# Altium footprint library EG701_BMS.PcbLib: 15 footprints
Each footprint in its own frame and in the unit in brackets; x right, y up, seen from the top. Pads: shape width x height; smd on the part's side, far side on the other; paste and mask are expansions set on the pad; w line width, h text height; cw(c..) or ccw(c..) is an arc to the next point about the centre after c.
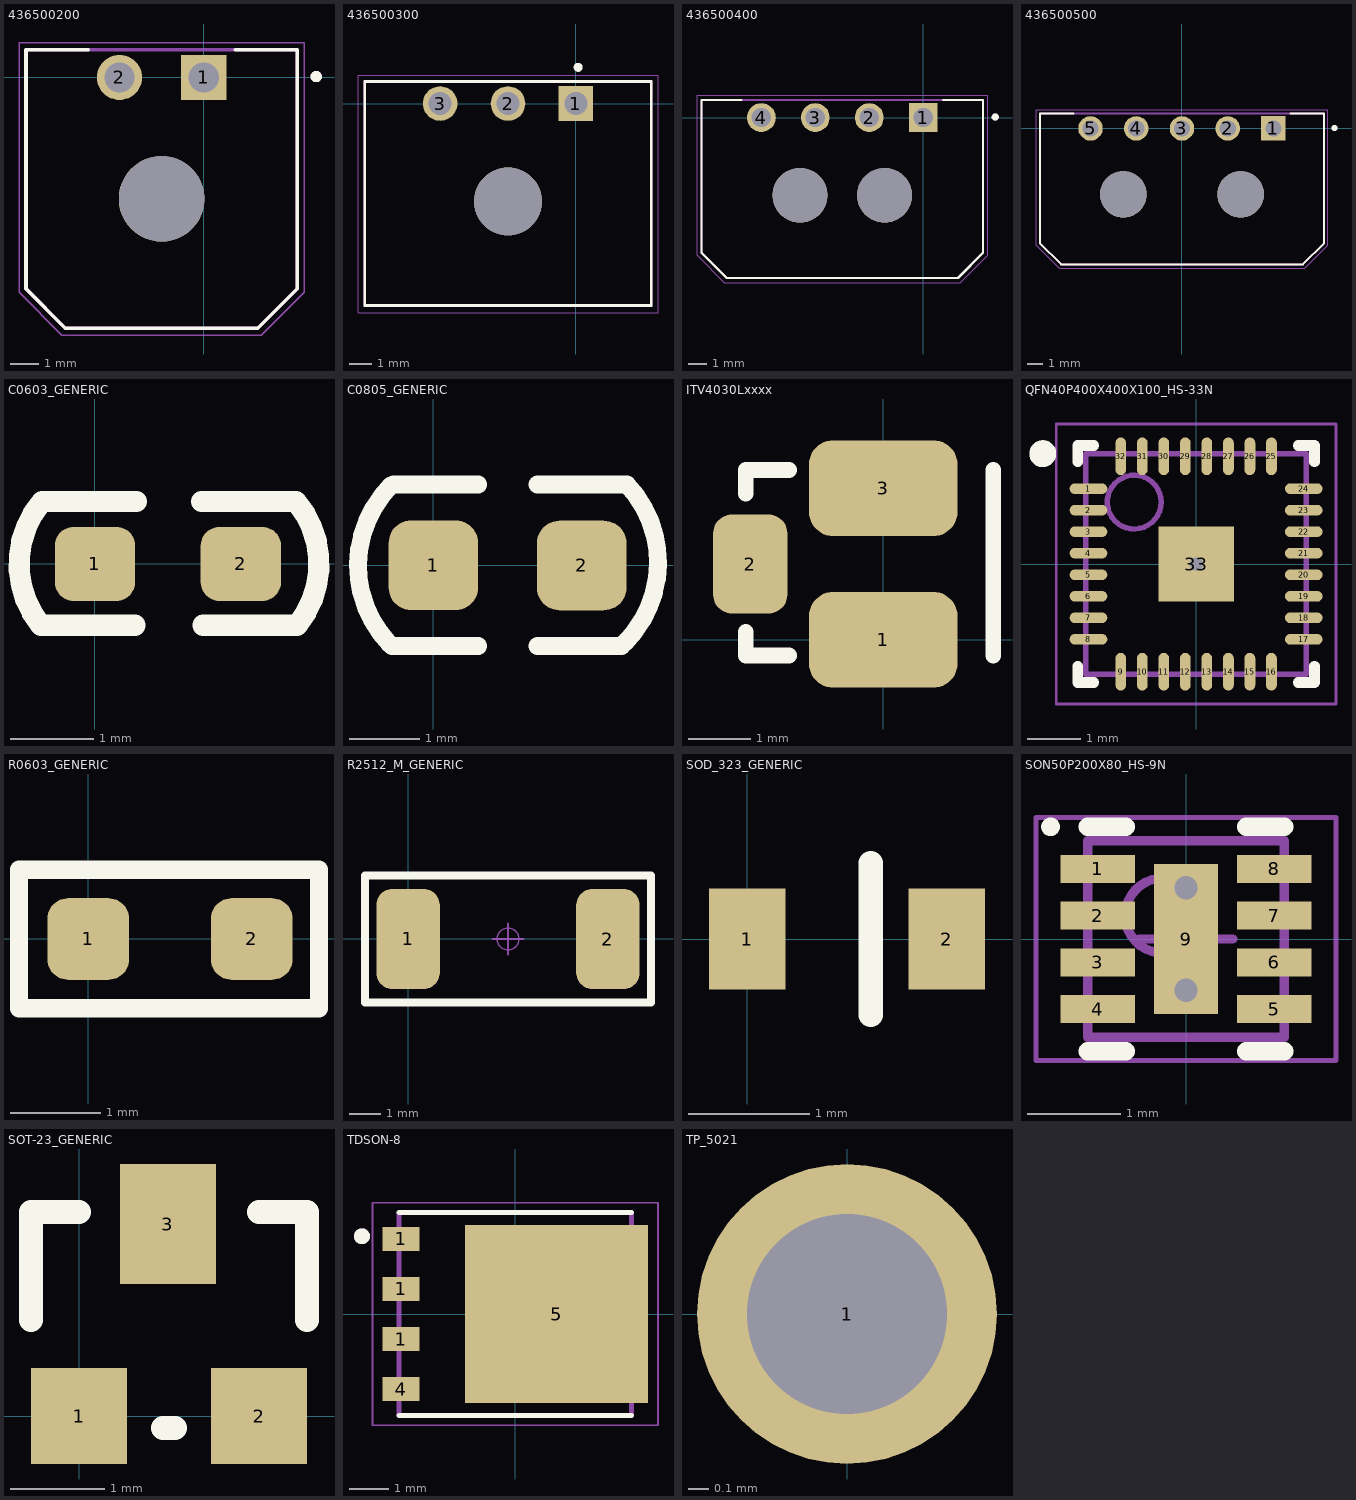
[diagram p0: the footprints below, top view; thin cyan lines are the x and y axes]

## 436500200 [mm] "Molex MicroFit RA 2P"
pads (3):
  rect 1.605x1.605 hole 1.07: 1(0,0)
  round 1.605 hole 1.07: 2(-3,0)
  round 3.05 hole 3.05 unplated: ""(-1.5,-4.32)
Top Overlay:
  circle w0.2: c4,0.03 r0.1
  lines w0.127: -4.12,0.98 -6.325,0.98 -6.325,-7.52 -4.925,-8.92 1.925,-8.92 3.325,-7.52 3.325,0.98 1.12,0.98
Mechanical 13:
  circle w0.2: c4,0.03 r0.1
  lines w0.127: -6.325,-7.52 -6.325,0.98 3.325,0.98 3.325,-7.52 1.925,-8.92 -4.925,-8.92 -6.325,-7.52
Mechanical 15:
  lines w0.05: -6.575,-7.645 -6.575,1.23 3.575,1.23 3.575,-7.645 2.05,-9.17 -5.05,-9.17 -6.575,-7.645
3D body "436500200.stp": height 5.64, standoff -3.27, extent -6.325,-8.92 3.325,0.98

## 436500300 [mm] "Molex MicroFit RA 3P"
pads (4):
  rect 1.53x1.53 hole 1.02: 1(0,0)
  round 1.53 hole 1.02: 2(-3,0) 3(-6,0)
  round 3 hole 3 unplated: ""(-3,-4.32)
Top Overlay:
  circle w0.2: c0.1,1.6 r0.1
  lines w0.127: -9.325,-8.92 -9.325,0.98 3.325,0.98 3.325,-8.92 -9.325,-8.92
Mechanical 13:
  lines w0.127: -9.325,-8.92 -9.325,0.98 3.325,0.98 3.325,-8.92 -9.325,-8.92
Mechanical 15:
  lines w0.05: -9.625,-9.25 -9.625,1.25 3.625,1.25 3.625,-9.25 -9.625,-9.25
3D body "436500300.stp": height 5.64, standoff -3.27, extent -9.325,-8.887 3.325,1.013

## 436500400 [mm] "MOLEX MicroFit RA 4P"
pads (6):
  rect 1.605x1.605 hole 1.07: 1(0,0)
  round 1.605 hole 1.07: 2(-3,0) 3(-6,0) 4(-9,0)
  round 3.05 hole 3.05 unplated: ""(-6.85,-4.32) ""(-2.15,-4.32)
Top Overlay:
  circle w0.2: c4,0.03 r0.1
  lines w0.127: -10.12,0.98 -12.325,0.98 -12.325,-7.52 -10.925,-8.92 1.925,-8.92 3.325,-7.52 3.325,0.98 1.12,0.98
Mechanical 13:
  circle w0.2: c4,0.03 r0.1
  lines w0.127: -12.325,-7.52 -10.925,-8.92 1.925,-8.92 3.325,-7.52 3.325,0.98 -12.325,0.98 -12.325,-7.52
Mechanical 15:
  lines w0.05: -12.575,-7.645 -11.05,-9.17 2.05,-9.17 3.575,-7.645 3.575,1.23 -12.575,1.23 -12.575,-7.645
3D body "436500400.stp": height 5.64, standoff -3.27, extent -12.325,-8.92 3.325,0.98

## 436500500 [mm] "MOLEX MicroFit RA 5P"
pads (7):
  rect 1.605x1.605 hole 1.07: 1(6,0)
  round 1.605 hole 1.07: 2(3,0) 3(0,0) 4(-3,0) 5(-6,0)
  round 3.05 hole 3.05 unplated: ""(-3.85,-4.32) ""(3.85,-4.32)
Top Overlay:
  circle w0.2: c10,0.03 r0.1
  lines w0.127: -7.12,0.98 -9.325,0.98 -9.325,-7.52 -7.925,-8.92 7.925,-8.92 9.325,-7.52 9.325,0.98 7.12,0.98
Mechanical 13:
  circle w0.2: c10,0.03 r0.1
  lines w0.127: -9.325,0.98 -9.325,-7.52 -7.925,-8.92 7.925,-8.92 9.325,-7.52 9.325,0.98 -9.289,0.98
Mechanical 15:
  lines w0.05: -9.575,-7.645 -8.05,-9.17 8.05,-9.17 9.575,-7.645 9.575,1.23 -9.575,1.23 -9.575,-7.645
3D body "436500500.stp": height 5.64, standoff -3.27, extent -9.289,-8.887 9.351,1.013

## C0603_GENERIC [mil]
pads (2):
  rrect50% 38x35 smd: 1(0,0) 2(69,0)
Top Overlay:
  lines w10: 19,-29 -25.6,-29 cw(c9.84,-0.04) -25.08,29.56 19.56,29.56 ; 50.44,29.56 95.08,29.56 cw(c60.16,-0.04) 95.6,-29 51,-29
3D body "User Library-0603 SMD Capacitor.STEP": height 11.89, standoff 0, extent 3.8,-15.8 66.8,15.7

## C0805_GENERIC [mm]
pads (2):
  rrect50% 1.27x1.27 smd: 1(0,0) 2(2.101,-0.003)
Top Overlay:
  lines w0.254: -0.626,-1.109 cw(c0.539,-0.002) -0.602,1.13 ; -0.589,-1.143 0.635,-1.143 ; -0.566,1.143 0.635,1.143 ; 1.473,-1.143 2.667,-1.143 ; 1.473,1.143 2.72,1.143 ; 2.716,-1.093 ccw(c1.574,0.039) 2.743,1.143
3D body "User Library-0805 SMD Capacitor.STEP": height 0.77, standoff -0.01, extent 0.049,-0.622 2.049,0.628

## ITV4030Lxxxx [mm] "Battery Protector/Controllable Fuse"
pads (3):
  rrect50% 2.4x1.55 smd: 1(0,0) 3(0,2.45)
  rrect50% 1.2x1.6 smd: 2(-2.15,1.225)
Top Overlay:
  lines w0.254: -2.222,0.127 -2.222,-0.254 -1.524,-0.254 ; -2.222,2.365 -2.222,2.746 -1.524,2.746 ; 1.778,-0.254 1.778,2.746
3D body: height 0.9, standoff 0, extent -2.159,-0.254 1.778,2.794

## QFN40P400X400X100_HS-33N [mm] "QFN, 32-Leads, Body 4.00x4.00mm, Pitch 0.40mm, Thermal Pad 1.40x1.40mm, IPC Medium Density"
height 1
pads (33):
  oval 0.7x0.2 smd: 1(-2,1.4) 2(-2,1) 3(-2,0.6) 4(-2,0.2) 5(-2,-0.2) 6(-2,-0.6) 7(-2,-1) 8(-2,-1.4) 17(2,-1.4) 18(2,-1) 19(2,-0.6) 20(2,-0.2) 21(2,0.2) 22(2,0.6) 23(2,1) 24(2,1.4)
  oval 0.2x0.7 smd: 9(-1.4,-2) 10(-1,-2) 11(-0.6,-2) 12(-0.2,-2) 13(0.2,-2) 14(0.6,-2) 15(1,-2) 16(1.4,-2) 25(1.4,2) 26(1,2) 27(0.6,2) 28(0.2,2) 29(-0.2,2) 30(-0.6,2) 31(-1,2) 32(-1.4,2)
  rect 1.4x1.4 smd: 33(0,0)
via 0,0 diameter 0.5 hole 0.25
Top Overlay:
  circle w0.25: c-2.85,2.05 r0.125
  lines w0.2: -2.2,-1.9 -2.2,-2.2 -1.9,-2.2 ; -2.2,1.9 -2.2,2.2 -1.9,2.2 ; 1.9,-2.2 2.2,-2.2 2.2,-1.9 ; 1.9,2.2 2.2,2.2 2.2,1.9
Mechanical 13:
  circle w0.1: c-1.15,1.15 r0.5
  lines w0.1: -2.05,-2.05 2.05,-2.05 2.05,2.05 -2.05,2.05 -2.05,-2.05
Mechanical 15:
  lines w0.05: -2.6,-2.6 2.6,-2.6 2.6,2.6 -2.6,2.6 -2.6,-2.6
  lines w0.1: -0.5,0 0.5,0 ; 0,-0.5 0,0.5
3D body: height 1, standoff 0, extent -2.05,-2.05 2.05,2.05

## R0603_GENERIC [mm] "http://www.vishay.com/docs/28745/soldpads.pdf"
pads (2):
  rrect50% 0.9x0.9 smd: 1(0,0) 2(1.8,0)
Top Overlay:
  lines w0.2: -0.762,-0.762 2.54,-0.762 2.54,0.762 -0.762,0.762 -0.762,-0.762
3D body: height 0.5, standoff 0, extent 1.45,-0.4 1.7,0.4
3D body: height 0.5, standoff 0, extent 0.1,-0.4 0.35,0.4
3D body: height 0.45, standoff 0.05, extent 0.125,-0.375 1.675,0.375

## R2512_M_GENERIC [mm]
pads (2):
  rrect50% 2.032x3.2 smd: 1(0,0) 2(6.4,0)
Top Overlay:
  lines w0.254: -1.372,-2.032 -1.372,2.032 7.772,2.032 7.772,-2.032 -1.372,-2.032
Mechanical 15:
  circle w0.05: c3.2,0 r0.35
  lines w0.05: 2.7,0 3.7,0 ; 3.2,-0.5 3.2,0.5
3D body "R 2512.STEP": height 0.55, standoff -0.02, extent 0,-1.6 6.4,1.6

## SOD_323_GENERIC [mm] "SMT diode"
height 1
pads (2):
  rect 0.63x0.83 smd: 1(0,0) 2(1.64,0)
Top Overlay:
  lines w0.2: 1.016,-0.625 1.016,0.625
3D body: height 1, standoff 0.1, extent -0.03,-0.625 1.67,0.625
3D body: height 1.05, standoff 1, extent 1.22,-0.625 1.32,0.625

## SON50P200X80_HS-9N [mm] "SON, 8-Leads, Body 2.00x2.00mm, Pitch 0.50mm, Thermal Pad 1.60x0.69mm, IPC Medium Density"
height 0.8
pads (9):
  rect 0.8x0.3 smd: 1(-0.945,0.75) 2(-0.945,0.25) 3(-0.945,-0.25) 4(-0.945,-0.75) 5(0.945,-0.75) 6(0.945,-0.25) 7(0.945,0.25) 8(0.945,0.75)
  rect 0.69x1.6 smd: 9(0,0)
via 0,0.55 diameter 0.5 hole 0.25
via 0,-0.55 diameter 0.5 hole 0.25
Top Overlay:
  circle w0.1: c-1.45,1.2 r0.05
  lines w0.2: -1.05,-1.2 -0.645,-1.2 ; -1.05,1.2 -0.645,1.2 ; 0.645,-1.2 1.05,-1.2 ; 0.645,1.2 1.05,1.2
Mechanical 13:
  circle w0.1: c-0.25,0.25 r0.4
  lines w0.1: -1.05,-1.05 -1.05,1.05 1.05,1.05 1.05,-1.05 -1.05,-1.05
Mechanical 15:
  lines w0.05: -1.605,-1.3 -1.605,1.3 1.605,1.3 1.605,-1.3 -1.605,-1.3
  lines w0.1: -0.5,0 0.5,0 ; 0,-0.5 0,0.5
3D body: height 0.8, standoff 0, extent -1.05,-1.05 1.05,1.05

## SOT-23_GENERIC [mil]
pads (3):
  rect 40x40 smd: 1(0,0) 2(75,0)
  rect 40x50 smd: 3(37,80)
Top Overlay:
  lines w10: -20,40 -20,85 0,85 ; 35,-5 40,-5 ; 75,85 95,85 95,40
3D body "SOT-23-3.STEP": height 47.24, standoff 0, extent -19.76,-11.65 94.42,98.59

## TDSON-8 [mm] "Infineon MOSFETs"
pads (5):
  rect 0.95x0.6 smd: 1(-2.9,-0.635) 1(-2.9,0.635) 1(-2.9,1.905) 4(-2.9,-1.905)
  rect 4.65x4.51 smd: 5(1.05,0)
Top Overlay:
  circle w0.2: c-3.892,1.973 r0.1
  lines w0.127: -2.95,-2.575 2.95,-2.575 ; -2.95,2.575 2.95,2.575
Top Paste:
  region: 2.53,-1.655 3.28,-1.655 3.28,-2.155 2.53,-2.155
  region: 2.53,-0.385 3.28,-0.385 3.28,-0.885 2.53,-0.885
  region: 2.53,0.885 3.28,0.885 3.28,0.385 2.53,0.385
  region: 2.53,2.155 3.28,2.155 3.28,1.655 2.53,1.655
  region: 0.75,-0.1 2.25,-0.1 2.25,-1.6 0.75,-1.6
  region: 0.75,1.6 2.25,1.6 2.25,0.1 0.75,0.1
  region: -0.95,-0.1 0.55,-0.1 0.55,-1.6 -0.95,-1.6
  region: -0.95,1.6 0.55,1.6 0.55,0.1 -0.95,0.1
  region: -3.104,-1.531 -2.706,-1.531 -2.706,-2.281 -3.104,-2.281
  region: -3.105,-0.26 -2.705,-0.26 -2.705,-1.01 -3.105,-1.01
  region: -3.106,1.011 -2.704,1.011 -2.704,0.261 -3.106,0.261
  region: -3.105,2.275 -2.705,2.275 -2.705,1.525 -3.105,1.525
Top Solder:
  region: -2.475,2.155 -2.475,1.655 -3.325,1.655 -3.325,2.155
  region: -2.475,0.885 -2.475,0.385 -3.325,0.385 -3.325,0.885
  region: -2.475,-0.385 -2.475,-0.885 -3.325,-0.885 -3.325,-0.385
  region: -2.475,-1.655 -2.475,-2.155 -3.325,-2.155 -3.325,-1.655
  region: -1.225,2.205 -1.225,-2.205 3.325,-2.205 3.325,-1.605 2.525,-1.605 2.525,-0.935 3.325,-0.935 3.325,-0.335 2.525,-0.335 2.525,0.335 3.325,0.335 3.325,0.935 2.525,0.935 2.525,1.605 3.325,1.605 3.325,2.205
Mechanical 13:
  circle w0.2: c-3.892,1.973 r0.1
  circle w0.2: c-3.892,1.973 r0.1
  lines w0.127: -2.95,-2.575 -2.95,2.575 ; -2.95,-2.575 2.95,-2.575 ; -2.95,-2.575 -2.95,2.575 ; -2.95,-2.575 2.95,-2.575 ; -2.95,2.575 2.95,2.575 ; -2.95,2.575 2.95,2.575 ; 2.95,-2.575 2.95,2.575 ; 2.95,-2.575 2.95,2.575
Mechanical 15:
  lines w0.05: -3.625,-2.825 -3.625,2.825 3.625,2.825 3.625,-2.825 -3.625,-2.825
3D body "User Library-TDSON-8-1.STEP": height 1, standoff 0, extent -3.075,-2.675 3.075,2.675

## TP_5021 [mm] "Test point, low profile"
pads (1):
  round 1.5 hole 1: 1(0,0)
3D body "TP_5021.stp": height 2.6, standoff -2.5, extent -1.249,-0.254 1.249,0.246